# EAGLE library part ESP-12E/F (library ESP12F)
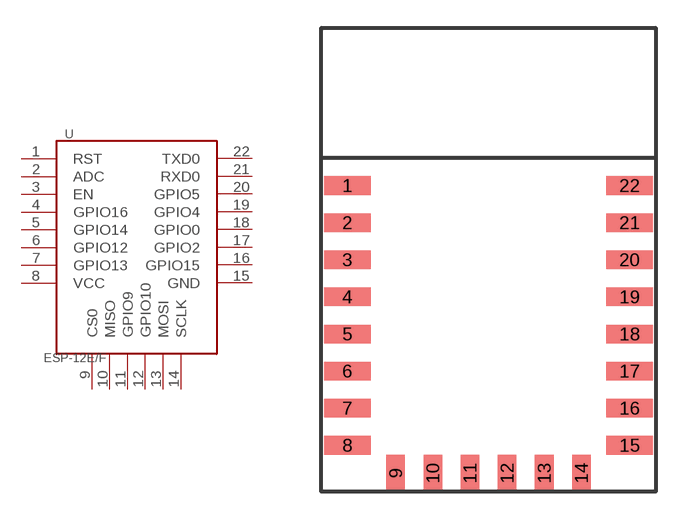
[diagram p0: symbol with the pads of ESP-12E/F; footprint ESP-12E/F]

Designator prefix -

## ESP-12E/F  [ESP-12E/F]
1  RST
2  ADC
3  EN
4  GPIO16
5  GPIO14
6  GPIO12
7  GPIO13
8  VCC
9  CS0
10  MISO
11  GPIO9
12  GPIO10
13  MOSI
14  SCLK
15  GND
16  GPIO15
17  GPIO2
18  GPIO0
19  GPIO4
20  GPIO5
21  RXD0
22  TXD0

## Footprint ESP-12E/F (pad centres in mm)
smd 2.5 x 1: 1 0.4,15.5; 2 0.4,13.5; 3 0.4,11.5; 4 0.4,9.5; 5 0.4,7.5; 6 0.4,5.5; 7 0.4,3.5; 8 0.4,1.5; 15 15.6,1.5; 16 15.6,3.5; 17 15.6,5.5; 18 15.6,7.5; 19 15.6,9.5; 20 15.6,11.5; 21 15.6,13.5; 22 15.6,15.5
smd 1 x 2: 9 3,0; 10 5,0; 11 7,0; 12 9,0; 13 11,0; 14 13,0